# Altium schematic symbol library SamacSys.SchLib: 56 symbols
Pins are listed as number, name and electrical type; pins without a type are passive.

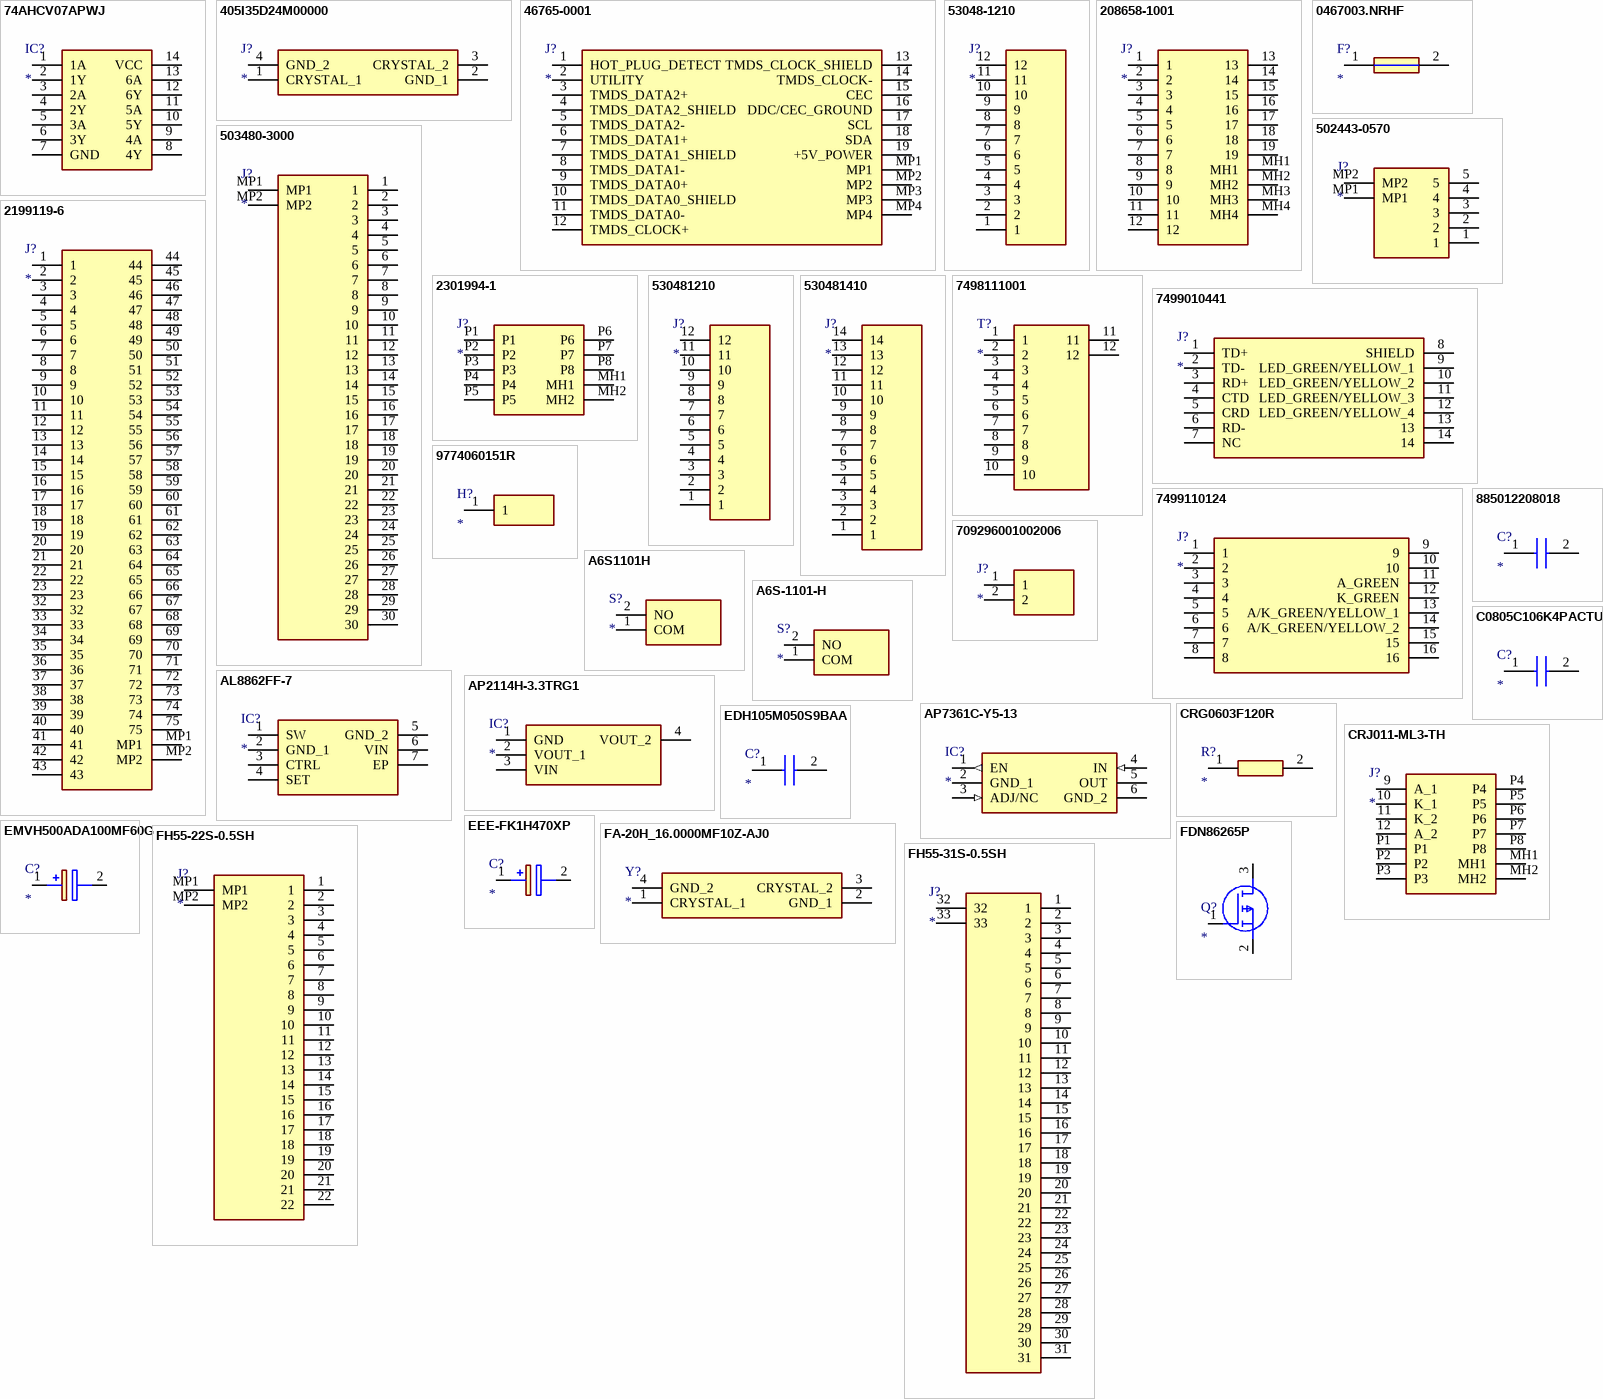
[diagram p0: symbols 74AHCV07APWJ to FH55-31S-0.5SH]

## 74AHCV07APWJ
designator IC?
Integrated Circuit; Manufacturer_Name: Nexperia; Manufacturer_Part_Number: 74AHCV07APWJ; Datasheet Link: https://assets.nexperia.com/documents/data-sheet/74AHCV07A.pdf; Height: 1.1mm; Mouser Part Number: 771-74AHCV07APWJ; Mouser Price/Stock: https://www.mouser.co.uk/ProductDetail/Nexperia/74AHCV07APWJ?qs=u4fy%2FsgLU9Pjqk84zTNYAw%3D%3D; Arrow Part Number: 74AHCV07APWJ; Arrow Price/Stock: https://www.arrow.com/en/products/74ahcv07apwj/nexperia
footprint SOP65P640X110-14N
pins: 1 1A, 2 1Y, 3 2A, 4 2Y, 5 3A, 6 3Y, 7 GND, 8 4Y, 9 4A, 10 5Y, 11 5A, 12 6Y, 13 6A, 14 VCC

## 405I35D24M00000
designator J?
Connector; Manufacturer_Name: CTS; Manufacturer_Part_Number: 405I35D24M00000; Datasheet Link: https://www.mouser.com/datasheet/2/96/008-0253-0-786072.pdf; Height: 1mm; Mouser Part Number: 774-405I35D24M00000; Mouser Price/Stock: https://www.mouser.co.uk/ProductDetail/CTS-Electronic-Components/405I35D24M00000?qs=PDIOggHaj2zuh0HEc8%252Bmtg%3D%3D; Arrow Part Number: 405I35D24M00000; Arrow Price/Stock: https://www.arrow.com/en/products/405i35d24m00000/cts
footprint 405I35D24M00000
pins: 1 CRYSTAL_1, 2 GND_1, 3 CRYSTAL_2, 4 GND_2

## 46765-0001
designator J?
Connector; Manufacturer_Name: Molex; Manufacturer_Part_Number: 46765-0001; Datasheet Link: https://www.molex.com/pdm_docs/sd/467650001_sd.pdf; Height: 3.05mm; Mouser Part Number: 538-46765-0001; Mouser Price/Stock: https://www.mouser.co.uk/ProductDetail/Molex/46765-0001?qs=ASaot9jrY6G3qvY5XgUFsQ%3D%3D
footprint 467650001
pins: 1 HOT_PLUG_DETECT, 2 UTILITY, 3 TMDS_DATA2+, 4 TMDS_DATA2_SHIELD, 5 TMDS_DATA2-, 6 TMDS_DATA1+, 7 TMDS_DATA1_SHIELD, 8 TMDS_DATA1-, 9 TMDS_DATA0+, 10 TMDS_DATA0_SHIELD, 11 TMDS_DATA0-, 12 TMDS_CLOCK+, 13 TMDS_CLOCK_SHIELD, 14 TMDS_CLOCK-, 15 CEC, 16 DDC/CEC_GROUND, 17 SCL, 18 SDA, 19 +5V_POWER, MP1, MP2, MP3, MP4

## 53048-1210
designator J?
Connector; Manufacturer_Name: Molex; Manufacturer_Part_Number: 53048-1210; Datasheet Link: https://www.molex.com/pdm_docs/sd/530481210_sd.pdf; Height: 3.7mm; Mouser Part Number: 538-53048-1210; Mouser Price/Stock: https://www.mouser.co.uk/ProductDetail/Molex/53048-1210?qs=jsoPY5EnoNtPZoAEkzh5RA%3D%3D
footprint 530481210
pins: 1, 2, 3, 4, 5, 6, 7, 8, 9, 10, 11, 12

## 208658-1001
designator J?
Connector; Manufacturer_Name: Molex; Manufacturer_Part_Number: 208658-1001; Datasheet Link: https://componentsearchengine.com/Datasheets/2/208658-1001.pdf; Height: 6.19mm; Mouser Part Number: 538-208658-1001; Mouser Price/Stock: https://www.mouser.co.uk/ProductDetail/Molex/208658-1001?qs=B6kkDfuK7%2FCPiHHdkGL5VQ%3D%3D
footprint 2086581001
pins: 1, 2, 3, 4, 5, 6, 7, 8, 9, 10, 11, 12, 13, 14, 15, 16, 17, 18, 19, MH1, MH2, MH3, MH4

## 0467003.NRHF
designator F?
Fuse; Manufacturer_Name: LITTELFUSE; Manufacturer_Part_Number: 0467003.NRHF; Datasheet Link: https://componentsearchengine.com/Datasheets/2/0467003.NRHF.pdf; Height: 0.432mm; Mouser Part Number: 576-0467003.NRHF; Mouser Price/Stock: https://www.mouser.co.uk/ProductDetail/Littelfuse/0467003NRHF?qs=PalBzRKzfnvFQs1rQNSAzg%3D%3D; Arrow Part Number: 0467003.NRHF; Arrow Price/Stock: https://www.arrow.com/en/products/0467003.nrhf/littelfuse?region=nac
footprint FUSC1608X43N
pins: 1, 2

## 502443-0570
designator J?
Connector; Manufacturer_Name: Molex; Manufacturer_Part_Number: 502443-0570; Datasheet Link: https://componentsearchengine.com/Datasheets/2/502443-0570.pdf; Height: 7.45mm; Mouser Part Number: 538-502443-0570; Mouser Price/Stock: https://www.mouser.co.uk/ProductDetail/Molex/502443-0570?qs=1uvhzzitxfg1OVwaaAd81w%3D%3D
footprint 5024430570
pins: 1, 2, 3, 4, 5, MP1, MP2

## 503480-3000
designator J?
Connector; Manufacturer_Name: Molex; Manufacturer_Part_Number: 503480-3000; Datasheet Link: https://www.molex.com/pdm_docs/sd/5034803000_sd.pdf; Height: 1.2mm; Mouser Part Number: 538-503480-3000; Mouser Price/Stock: https://www.mouser.co.uk/ProductDetail/Molex/503480-3000?qs=GedFDFLaBXHBdtIsuHVbtw%3D%3D
footprint 5034803000
pins: 1, 2, 3, 4, 5, 6, 7, 8, 9, 10, 11, 12, 13, 14, 15, 16, 17, 18, 19, 20, 21, 22, 23, 24, 25, 26, 27, 28, 29, 30, MP1, MP2

## 2199119-6
designator J?
Connector; Manufacturer_Name: TE Connectivity; Manufacturer_Part_Number: 2199119-6; Datasheet Link: https://www.te.com/commerce/DocumentDelivery/DDEController?Action=showdoc&DocId=Customer+Drawing%7F2199119%7FF%7Fpdf%7FEnglish%7FENG_CD_2199119_F.pdf%7F2199119-6; Height: 3.2mm; Mouser Part Number: 571-2199119-6; Mouser Price/Stock: https://www.mouser.co.uk/ProductDetail/TE-Connectivity/2199119-6?qs=I%252B29QTDM1GPbKrQPIjXoKA%3D%3D; Arrow Part Number: 2199119-6; Arrow Price/Stock: https://www.arrow.com/en/products/2199119-6/te-connectivity?region=nac
footprint 21991196
pins: 1, 2, 3, 4, 5, 6, 7, 8, 9, 10, 11, 12, 13, 14, 15, 16, 17, 18, 19, 20, 21, 22, 23, 32, 33, 34, 35, 36, 37, 38, 39, 40, 41, 42, 43, 44, 45, 46, 47, 48, 49, 50, 51, 52, 53, 54, 55, 56, 57, 58, 59, 60, 61, 62, 63, 64, 65, 66, 67, 68, 69, 70, 71, 72, 73, 74, 75, MP1, MP2

## 2301994-1
designator J?
Connector; Manufacturer_Name: TE Connectivity; Manufacturer_Part_Number: 2301994-1; Datasheet Link: https://www.te.com/commerce/DocumentDelivery/DDEController?Action=showdoc&DocId=Customer+Drawing%7F2301994-1%7FB2%7Fpdf%7FEnglish%7FENG_CD_2301994-1_B2.pdf%7F2301994-1; Height: 14.05mm; Mouser Part Number: 571-2301994-1; Mouser Price/Stock: https://www.mouser.co.uk/ProductDetail/TE-Connectivity/2301994-1?qs=u4fy%2FsgLU9P5wNXXOQsSRw%3D%3D; Arrow Part Number: 2301994-1; Arrow Price/Stock: https://www.arrow.com/en/products/2301994-1/te-connectivity?region=nac
footprint 23019941
pins: MH1, MH2, P1, P2, P3, P4, P5, P6, P7, P8

## 530481210
designator J?
Connector; Manufacturer_Name: Molex; Manufacturer_Part_Number: 530481210; Datasheet Link: https://www.molex.com/pdm_docs/sd/530480210_sd.pdf; Height: 3.5mm
footprint 530481210
pins: 1, 2, 3, 4, 5, 6, 7, 8, 9, 10, 11, 12

## 530481410
designator J?
Connector; Manufacturer_Name: Molex; Manufacturer_Part_Number: 530481410; Datasheet Link: https://www.molex.com/pdm_docs/sd/530480210_sd.pdf; Height: 3.5mm
footprint 530481410
pins: 1, 2, 3, 4, 5, 6, 7, 8, 9, 10, 11, 12, 13, 14

## 7498111001
designator T?
Transformer; Manufacturer_Name: Wurth Elektronik; Manufacturer_Part_Number: 7498111001; Datasheet Link: https://componentsearchengine.com/Datasheets/3/7498111001.pdf; Height: 13mm; Mouser Part Number: 710-7498111001; Mouser Price/Stock: https://www.mouser.co.uk/ProductDetail/Wurth-Elektronik/7498111001?qs=SaTeGCoDkn1rVrmrMsYk8g%3D%3D
footprint 7498111001
pins: 1, 2, 3, 4, 5, 6, 7, 8, 9, 10, 11, 12

## 7499010441
designator J?
Connector; Manufacturer_Name: Wurth Elektronik; Manufacturer_Part_Number: 7499010441; Datasheet Link: https://katalog.we-online.de/pbs/datasheet/7499010441.pdf; Height: 13.5mm; Mouser Part Number: 710-7499010441; Mouser Price/Stock: https://www.mouser.co.uk/ProductDetail/Wurth-Elektronik/7499010441?qs=AAveGqk956Go64FoBQPFSg%3D%3D
footprint 7499010441
pins: 1 TD+, 2 TD-, 3 RD+, 4 CTD, 5 CRD, 6 RD-, 7 NC, 8 SHIELD, 9 LED_GREEN/YELLOW_1, 10 LED_GREEN/YELLOW_2, 11 LED_GREEN/YELLOW_3, 12 LED_GREEN/YELLOW_4, 13, 14

## 7499110124
designator J?
Connector; Manufacturer_Name: Wurth Elektronik; Manufacturer_Part_Number: 7499110124; Datasheet Link: https://katalog.we-online.de/pbs/datasheet/7499110124.pdf; Height: 13.5mm; Mouser Part Number: 710-7499110124; Mouser Price/Stock: https://www.mouser.co.uk/ProductDetail/Wurth-Elektronik/7499110124?qs=SaTeGCoDkn1PvCMdPPvy%2FA%3D%3D
footprint 7499110124
pins: 1, 2, 3, 4, 5, 6, 7, 8, 9, 10, 11 A_GREEN, 12 K_GREEN, 13 A/K_GREEN/YELLOW_1, 14 A/K_GREEN/YELLOW_2, 15, 16

## 9774060151R
designator H?
Hardware; Manufacturer_Name: Wurth Elektronik; Manufacturer_Part_Number: 9774060151R; Datasheet Link: https://katalog.we-online.com/em/datasheet/9774060151R.pdf; Mouser Part Number: 710-9774060151R; Mouser Price/Stock: https://www.mouser.co.uk/ProductDetail/Wurth-Elektronik/9774060151R?qs=KRpiEsko4HliqbwqeZk1iQ%3D%3D
footprint 9774060151R
pins: 1

## 885012208018
designator C?
Capacitor; Manufacturer_Name: Wurth Elektronik; Manufacturer_Part_Number: 885012208018; Datasheet Link: https://katalog.we-online.com/pbs/datasheet/885012208018.pdf; Height: 1.9mm; Mouser Part Number: 710-885012208018; Mouser Price/Stock: https://www.mouser.co.uk/ProductDetail/Wurth-Elektronik/885012208018?qs=0KOYDY2FL29Z58ELVPY%252BCA%3D%3D
footprint CAPC3317X190N
pins: 1, 2

## 709296001002006
designator J?
Connector; Manufacturer_Name: AVX; Manufacturer_Part_Number: 709296001002006; Datasheet Link: http://datasheets.avx.com/Poke_Home_Single_70-9296.pdf; Height: 1.7mm; Mouser Part Number: 581-709296001002006; Mouser Price/Stock: https://www.mouser.co.uk/ProductDetail/AVX/709296001002006?qs=XLNwXgtzMM%2FMpQCpbqirvA%3D%3D; Arrow Part Number: 709296001002006; Arrow Price/Stock: https://www.arrow.com/en/products/709296001002006/avx
footprint 709296001002006
pins: 1, 2

## A6S1101H
designator S?
Switch; Manufacturer_Name: Omron Electronics; Manufacturer_Part_Number: A6S1101H; Datasheet Link: http://www.farnell.com/datasheets/2340746.pdf; Arrow Part Number: A6S1101H; Arrow Price/Stock: https://www.arrow.com/en/products/a6s-1101-h/omron
footprint A6S-1104-H
pins: 1 COM, 2 NO

## A6S-1101-H
designator S?
Switch; Manufacturer_Name: Omron Electronics; Manufacturer_Part_Number: A6S-1101-H; Datasheet Link: https://mouser.componentsearchengine.com/Datasheets/1/A6S-1101-H.pdf; Height: 3.8mm; Mouser Part Number: 653-A6S-1101-H; Mouser Price/Stock: https://www.mouser.co.uk/ProductDetail/Omron-Electronics/A6S-1101-H?qs=QTkYtwcxD6MyBm2N0BKuKw%3D%3D; Arrow Part Number: A6S-1101-H; Arrow Price/Stock: https://www.arrow.com/en/products/a6s-1101-h/omron?region=europe
footprint A6S1101H
pins: 1 COM, 2 NO

## AL8862FF-7
designator IC?
Integrated Circuit; Manufacturer_Name: Diodes Inc.; Manufacturer_Part_Number: AL8862FF-7; Datasheet Link: https://www.diodes.com/assets/Datasheets/AL8862.pdf; Height: 0.63mm; Mouser Part Number: 621-AL8862FF-7; Mouser Price/Stock: https://www.mouser.co.uk/ProductDetail/Diodes-Incorporated/AL8862FF-7?qs=pBJMDPsKWf2LdfC8xFvK8A%3D%3D
footprint AL8862FF7
pins: 1 SW, 2 GND_1, 3 CTRL, 4 SET, 5 GND_2, 6 VIN, 7 EP

## AP2114H-3.3TRG1
designator IC?
Integrated Circuit; Manufacturer_Name: Diodes Inc.; Manufacturer_Part_Number: AP2114H-3.3TRG1; Datasheet Link: http://uk.rs-online.com/web/p/products/8283528; Height: 1.8mm; Mouser Part Number: 621-AP2114H-3.3TRG1; Mouser Price/Stock: https://www.mouser.co.uk/ProductDetail/Diodes-Incorporated/AP2114H-33TRG1?qs=x6A8l6qLYDDSG%2FfwzcsOhw%3D%3D; Arrow Part Number: AP2114H-3.3TRG1; Arrow Price/Stock: https://www.arrow.com/en/products/ap2114h-3.3trg1/diodes-incorporated?region=nac
footprint SOT230P700X180-4N
pins: 1 GND, 2 VOUT_1, 3 VIN, 4 VOUT_2

## AP7361C-Y5-13
designator IC?
Integrated Circuit; Manufacturer_Name: Diodes Inc.; Manufacturer_Part_Number: AP7361C-Y5-13; Datasheet Link: https://www.diodes.com/assets/Datasheets/AP7361C.pdf; Height: 1.6mm; Mouser Part Number: 621-AP7361C-Y5-13; Mouser Price/Stock: https://www.mouser.co.uk/ProductDetail/Diodes-Incorporated/AP7361C-Y5-13?qs=X421pCAdHWfqKZFzQxfJNg%3D%3D; Arrow Part Number: AP7361C-Y5-13; Arrow Price/Stock: https://www.arrow.com/en/products/ap7361c-y5-13/diodes-incorporated?region=nac
footprint AP7361CY513
pins: 1 EN (out), 2 GND_1 (power), 3 ADJ/NC (in), 4 IN (in), 5 OUT (power), 6 GND_2

## C0805C106K4PACTU
designator C?
Capacitor; Manufacturer_Name: KEMET; Manufacturer_Part_Number: C0805C106K4PACTU; Datasheet Link: https://content.kemet.com/datasheets/KEM_C1006_X5R_SMD.pdf; Height: 1.1mm; Mouser Part Number: 80-C0805C106K4P; Mouser Price/Stock: https://www.mouser.co.uk/ProductDetail/KEMET/C0805C106K4PACTU?qs=LOQsJ2JwiRQzQlGR%2F0Z13g%3D%3D; Arrow Part Number: C0805C106K4PACTU; Arrow Price/Stock: https://www.arrow.com/en/products/c0805c106k4pactu/kemet-corporation
footprint C0805
pins: 1, 2

## CRG0603F120R
designator R?
Resistor; Manufacturer_Name: TE Connectivity; Manufacturer_Part_Number: CRG0603F120R; Description: CRG0603 SMT chip resistor,120R 1% 0.1W TE Connectivity CRG0603 Series Thick Film Surface Mount Resistor 0603 Case 120 +/-1% 0.1W +/-100ppm/C; Datasheet Link: http://docs-europe.electrocomponents.com/webdocs/13d1/0900766b813d116f.pdf; Height: 0.55mm; Mouser Part Number: 279-CRG0603F120R; Mouser Price/Stock: https://www.mouser.co.uk/ProductDetail/TE-Connectivity-Holsworthy/CRG0603F120R?qs=VHcS2MTj4gbLzmSJaKDB9g%3D%3D; Arrow Part Number: CRG0603F120R; Arrow Price/Stock: https://www.arrow.com/en/products/crg0603f120r/te-connectivity
footprint RESC1608X55N
pins: 1, 2

## CRJ011-ML3-TH
designator J?
Connector; Manufacturer_Name: CUI Inc.; Manufacturer_Part_Number: CRJ011-ML3-TH; Datasheet Link: https://jp.cuidevices.com/product/resource/pdf/crj011.pdf; Height: 13.85mm; Mouser Part Number: 490-CRJ011-ML3-TH; Mouser Price/Stock: https://www.mouser.co.uk/ProductDetail/CUI-Devices/CRJ011-ML3-TH?qs=iLbezkQI%252BsiHIm7ab6t71Q%3D%3D
footprint CRJ011ML3TH
pins: 9 A_1, 10 K_1, 11 K_2, 12 A_2, MH1, MH2, P1, P2, P3, P4, P5, P6, P7, P8

## EDH105M050S9BAA
designator C?
Capacitor; Manufacturer_Name: KEMET; Manufacturer_Part_Number: EDH105M050S9BAA; Datasheet Link: https://content.kemet.com/datasheets/KEM_A4049_EDH.pdf; Height: 5.65mm; Mouser Part Number: 80-EDH105M050S9BAA; Mouser Price/Stock: https://www.mouser.co.uk/ProductDetail/KEMET/EDH105M050S9BAA?qs=E9QF1UCAUX7RrmBLBgPXlg%3D%3D; Arrow Part Number: EDH105M050S9BAA; Arrow Price/Stock: https://www.arrow.com/en/products/edh105m050s9baa/kemet-corporation
footprint CAPAE430X565N
pins: 1 +, 2 -

## EEE-FK1H470XP
designator C?
Capacitor Polarised; Manufacturer_Name: Panasonic; Manufacturer_Part_Number: EEE-FK1H470XP; Description: PANASONIC - EEE-FK1H470XP - ALUMINUM ELECTORLYTIC CAPACITOR; Datasheet Link: http://industrial.panasonic.com/cdbs/www-data/pdf/RDE0000/ABA0000C1181.pdf; Height: 7.8mm; Mouser Part Number: 667-EEE-FK1H470XP; Mouser Price/Stock: https://www.mouser.co.uk/ProductDetail/Panasonic/EEE-FK1H470XP?qs=qE6bgDGEOCtuVppQsylaxg%3D%3D; Arrow Part Number: EEE-FK1H470XP; Arrow Price/Stock: https://www.arrow.com/en/products/eee-fk1h470xp/panasonic?region=europe
footprint EEE0JA331XP
pins: 1 +, 2 -

## EMVH500ADA100MF60G
designator C?
Capacitor Polarised; Manufacturer_Name: United Chemi-Con; Manufacturer_Part_Number: EMVH500ADA100MF60G; Datasheet Link: https://datasheet.datasheetarchive.com/originals/distributors/Datasheets_SAMA/00faa400e29ccc6bfe274dba95f85cbe.pdf; Height: 6mm; Mouser Part Number: 661-MVH50V100M; Mouser Price/Stock: https://www.mouser.co.uk/ProductDetail/United-Chemi-Con/EMVH500ADA100MF60G?qs=P7xQOtY7rRc8whqEtcuBMg%3D%3D; Arrow Part Number: EMVH500ADA100MF60G; Arrow Price/Stock: https://www.arrow.com/en/products/emvh500ada100mf60g/united-chemi-con
footprint CAPAE660X600N
pins: 1 +, 2 -

## FA-20H_16.0000MF10Z-AJ0
designator Y?
Crystal or Oscillator; Manufacturer_Name: Epson Timing; Manufacturer_Part_Number: FA-20H 16.0000MF10Z-AJ0; Datasheet Link: https://support.epson.biz/td/api/doc_check.php?dl=brief_FA-20H&lang=en; Height: 0.55mm; Mouser Part Number: 732-FA-20H16MF10ZAJ0; Mouser Price/Stock: https://www.mouser.co.uk/ProductDetail/Epson-Timing/FA-20H-160000MF10Z-AJ0?qs=f9yNj16SXrIaU%252BY5GFRuIg%3D%3D; Arrow Part Number: FA-20H 16.0000MF10Z-AJ0; Arrow Price/Stock: https://www.arrow.com/en/products/fa-20h16.0000mf10z-aj0/epson-electronics-america?region=nac
footprint FA20H160000MF12ZAC3
pins: 1 CRYSTAL_1, 2 GND_1, 3 CRYSTAL_2, 4 GND_2

## FDN86265P
designator Q?
MOSFET (P-Channel); Manufacturer_Name: onsemi; Manufacturer_Part_Number: FDN86265P; Datasheet Link: https://datasheet.datasheetarchive.com/originals/distributors/DKDS-30/583456.pdf; Height: 1.12mm; Mouser Part Number: 512-FDN86265P; Mouser Price/Stock: https://www.mouser.co.uk/ProductDetail/ON-Semiconductor-Fairchild/FDN86265P?qs=wsLAKTqgg6igijISDrHynQ%3D%3D; Arrow Part Number: FDN86265P; Arrow Price/Stock: https://www.arrow.com/en/products/fdn86265p/on-semiconductor?region=nac
footprint SOT95P251X112-3N
pins: 1 G, 2 S, 3 D

## FH55-22S-0.5SH
designator J?
Connector; Manufacturer_Name: Hirose; Manufacturer_Part_Number: FH55-22S-0.5SH; Datasheet Link: https://www.hirose.com/product/document?clcode=CL0580-3707-7-00&productname=FH55-22S-0.5SH&series=FH55&documenttype=2DDrawing&lang=en&documentid=0000954481; Height: 1.6mm; Mouser Part Number: 798-FH55-22S-0.5SH; Mouser Price/Stock: https://www.mouser.co.uk/ProductDetail/Hirose-Connector/FH55-22S-0.5SH?qs=oomPkbqnLXfkoKazRmaHyQ%3D%3D
footprint FH5522S05SH
pins: 1, 2, 3, 4, 5, 6, 7, 8, 9, 10, 11, 12, 13, 14, 15, 16, 17, 18, 19, 20, 21, 22, MP1, MP2

## FH55-31S-0.5SH
designator J?
Connector; Manufacturer_Name: Hirose; Manufacturer_Part_Number: FH55-31S-0.5SH; Datasheet Link: https://www.hirose.com/product/en/products/FH55/FH55-31S-0.5SH/; Height: 2mm; Mouser Part Number: 798-FH55-31S-0.5SH; Mouser Price/Stock: https://www.mouser.co.uk/ProductDetail/Hirose-Connector/FH55-31S-0.5SH?qs=oomPkbqnLXdEjrIJHYo28Q%3D%3D
footprint FH5531S05SH
pins: 1, 2, 3, 4, 5, 6, 7, 8, 9, 10, 11, 12, 13, 14, 15, 16, 17, 18, 19, 20, 21, 22, 23, 24, 25, 26, 27, 28, 29, 30, 31, 32, 33

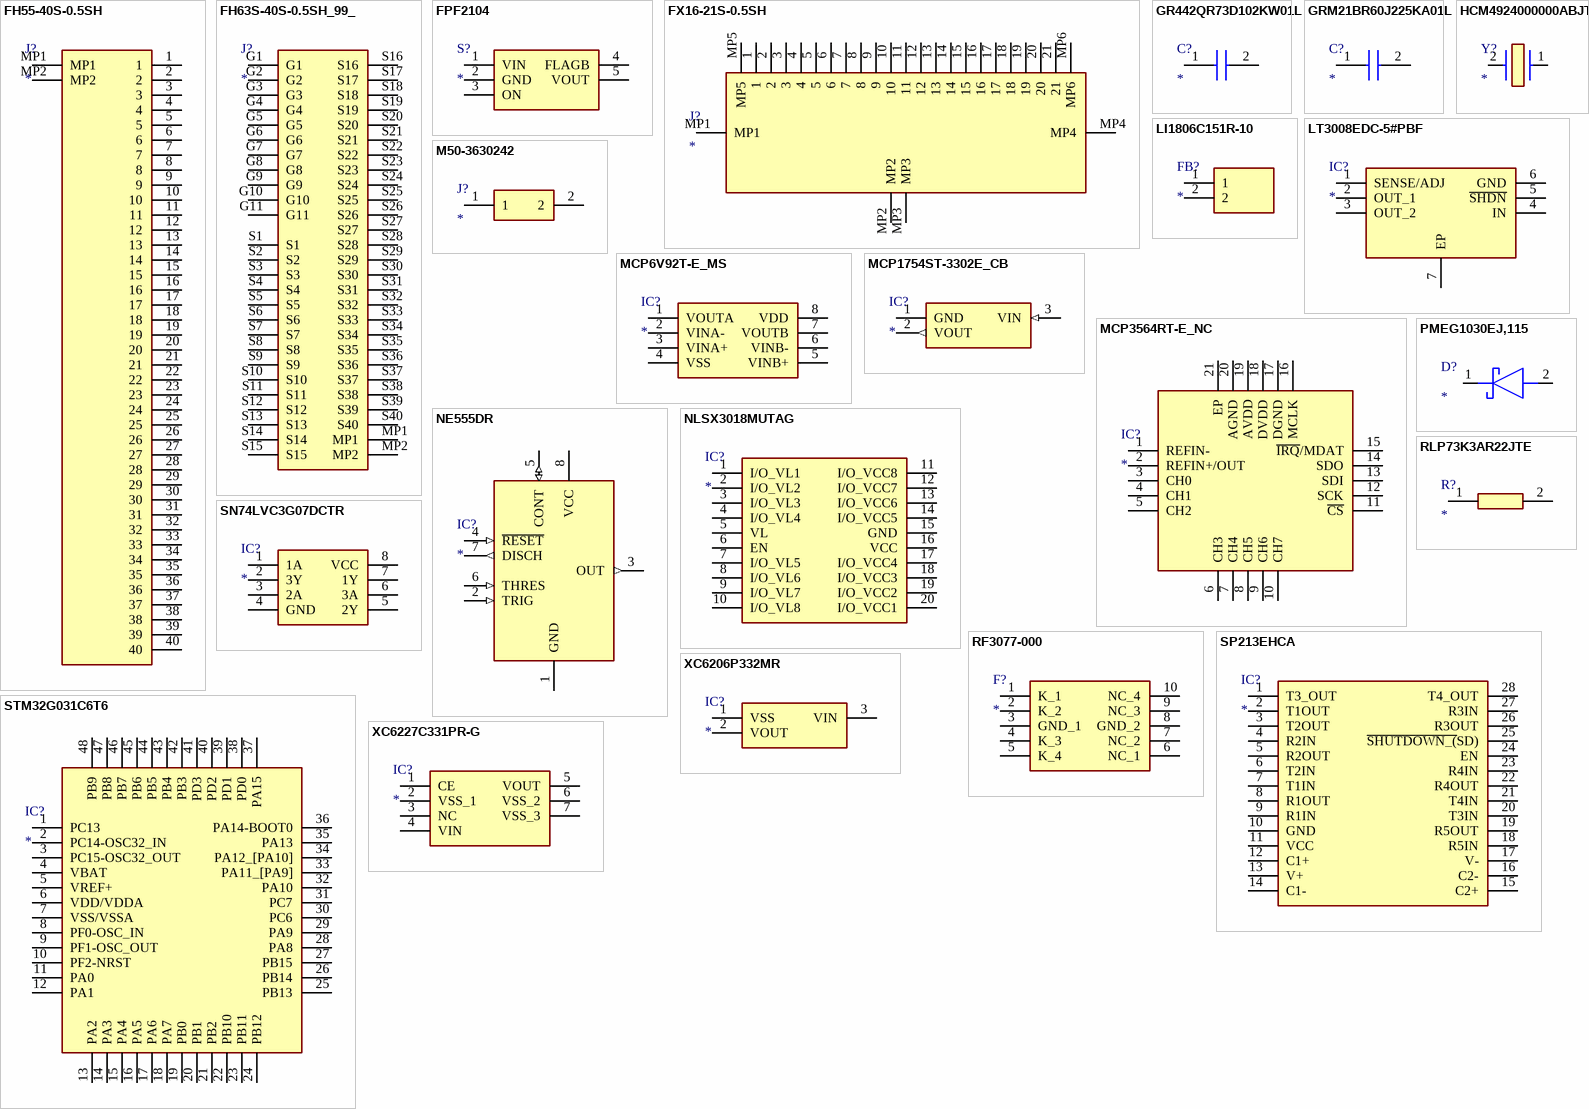
[diagram p1: symbols FH55-40S-0.5SH to XC6227C331PR-G]

## FH55-40S-0.5SH
designator J?
Connector; Manufacturer_Name: Hirose; Manufacturer_Part_Number: FH55-40S-0.5SH; Datasheet Link: https://componentsearchengine.com/Datasheets/1/FH55-40S-0.5SH.pdf; Height: 2.7mm; Mouser Part Number: 798-FH55-40S-0.5SH; Mouser Price/Stock: https://www.mouser.co.uk/ProductDetail/Hirose-Connector/FH55-40S-0.5SH?qs=ktzyoYSUItcg3zEHsgvG1w%3D%3D
footprint FH5540S05SH
pins: 1, 2, 3, 4, 5, 6, 7, 8, 9, 10, 11, 12, 13, 14, 15, 16, 17, 18, 19, 20, 21, 22, 23, 24, 25, 26, 27, 28, 29, 30, 31, 32, 33, 34, 35, 36, 37, 38, 39, 40, MP1, MP2

## FH63S-40S-0.5SH_99_
designator J?
Connector; Manufacturer_Name: Hirose; Manufacturer_Part_Number: FH63S-40S-0.5SH(99); Datasheet Link: https://www.hirose.com/en/product/document?clcode=CL0580-4416-0-99&productname=FH63S-40S-0.5SH(99)&series=FH63S&documenttype=Catalog&lang=en&documentid=ed_FH63S_CAT; Height: 2.802mm; Mouser Part Number: 798-FH63S40S0.5SH99; Mouser Price/Stock: https://www.mouser.co.uk/ProductDetail/Hirose-Connector/FH63S-40S-0.5SH99?qs=TuK3vfAjtkUsWQet%252Bj0BZA%3D%3D
footprint FH63S40S05SH99
pins: G1, G2, G3, G4, G5, G6, G7, G8, G9, G10, G11, MP1, MP2, S1, S2, S3, S4, S5, S6, S7, S8, S9, S10, S11, S12, S13, S14, S15, S16, S17, S18, S19, S20, S21, S22, S23, S24, S25, S26, S27, S28, S29, S30, S31, S32, S33, S34, S35, S36, S37, S38, S39, S40

## FPF2104
designator S?
Switch; Manufacturer_Name: onsemi; Manufacturer_Part_Number: FPF2104; Datasheet Link: https://www.onsemi.com/pub/Collateral/FPF2104-D.pdf; Height: 1.45mm; Mouser Part Number: 512-FPF2104; Mouser Price/Stock: https://www.mouser.co.uk/ProductDetail/ON-Semiconductor-Fairchild/FPF2104?qs=avSR6EZbCC0m9dvAR3XtGw%3D%3D; Arrow Part Number: FPF2104; Arrow Price/Stock: https://www.arrow.com/en/products/fpf2104/on-semiconductor?region=nac
footprint SOT95P280X145-5N
pins: 1 VIN, 2 GND, 3 ON, 4 FLAGB, 5 VOUT

## FX16-21S-0.5SH
designator J?
Connector; Manufacturer_Name: Hirose; Manufacturer_Part_Number: FX16-21S-0.5SH; Datasheet Link: https://www.hirose.com/en/product/document?clcode=CL0575-3411-5-00&productname=FX16-21S-0.5SH&series=FX16&documenttype=2DDrawing&lang=en&documentid=0000919096; Height: 4.7mm; Mouser Part Number: 798-FX1621S05SH; Mouser Price/Stock: https://www.mouser.co.uk/ProductDetail/Hirose-Connector/FX16-21S-05SH?qs=vnk2wBG9e16haNsE2RlrvQ%3D%3D
footprint FX1621S05SH
pins: 1, 2, 3, 4, 5, 6, 7, 8, 9, 10, 11, 12, 13, 14, 15, 16, 17, 18, 19, 20, 21, MP1, MP2, MP3, MP4, MP5, MP6

## GR442QR73D102KW01L
designator C?
Capacitor; Manufacturer_Name: Murata Electronics; Manufacturer_Part_Number: GR442QR73D102KW01L; Datasheet Link: https://componentsearchengine.com/Datasheets/2/GR442QR73D102KW01L.pdf; Height: 1.5mm; Mouser Part Number: 81-GR442QR73D102KW01; Mouser Price/Stock: https://www.mouser.co.uk/ProductDetail/Murata-Electronics/GR442QR73D102KW01L?qs=1XGAtBqYNz74JcxvF1DQuw%3D%3D; Arrow Part Number: GR442QR73D102KW01L; Arrow Price/Stock: https://www.arrow.com/en/products/gr442qr73d102kw01l/murata-manufacturing?region=nac
footprint CAPC4520X150N
pins: 1, 2

## GRM21BR60J225KA01L
designator C?
Capacitor; Manufacturer_Name: Murata Electronics; Manufacturer_Part_Number: GRM21BR60J225KA01L; Datasheet Link: https://www.murata.com/en-global/products/productdetail?partno=GRM21BR60J225KA01%23; Height: 1.35mm; Mouser Part Number: 81-GRM21R60J225KA01L; Mouser Price/Stock: https://www.mouser.co.uk/ProductDetail/Murata-Electronics/GRM21BR60J225KA01L?qs=DJY02EClX9mNbSy8m7mkKA%3D%3D; Arrow Part Number: GRM21BR60J225KA01L; Arrow Price/Stock: https://www.arrow.com/en/products/grm21br60j225ka01l/murata-manufacturing
footprint CAPC2012X135N
pins: 1, 2

## HCM4924000000ABJT
designator Y?
Crystal or Oscillator; Manufacturer_Name: Citizen Finetech Miyota; Manufacturer_Part_Number: HCM4924000000ABJT; Datasheet Link: http://cfd.citizen.co.jp/english/prod-tech/product/pdf/datasheet_AT/HCM49_E.pdf; Height: 4.3mm; Mouser Part Number: 695-HCM4924.0ABJT; Mouser Price/Stock: https://www.mouser.co.uk/ProductDetail/Citizen-FineDevice/HCM4924000000ABJT?qs=byeeYqUIh0Mz0GkevvEzSA%3D%3D
footprint HCM4924000000ABJT
pins: 1 CRISTAL_1, 2 CRYSTAL_2

## LI1806C151R-10
designator FB?
Ferrite Bead; Manufacturer_Name: Laird-Signal Integrity Products; Manufacturer_Part_Number: LI1806C151R-10; Datasheet Link: https://assets.lairdtech.com/home/brandworld/files/LI1806C151R-10.pdf; Height: 1.85mm
footprint BEADC4516X185N
pins: 1, 2

## LT3008EDC-5#PBF
designator IC?
Integrated Circuit; Manufacturer_Name: Analog Devices; Manufacturer_Part_Number: LT3008EDC-5#PBF; Datasheet Link: https://componentsearchengine.com/Datasheets/2/LT3008EDC-5#PBF.pdf; Height: 0.8mm; Arrow Part Number: LT3008EDC-5#PBF; Arrow Price/Stock: https://www.arrow.com/en/products/lt3008edc-5pbf/analog-devices
footprint SON50P200X200X80-7N-D
pins: 1 SENSE/ADJ, 2 OUT_1, 3 OUT_2, 4 IN, 5 ~{SHDN}, 6 GND, 7 EP

## M50-3630242
designator J?
Connector; Manufacturer_Name: Harwin; Manufacturer_Part_Number: M50-3630242; Datasheet Link: https://cdn.harwin.com/pdfs/M50-363.pdf; Height: 4.95mm; Mouser Part Number: 855-M50-3630242; Mouser Price/Stock: https://www.mouser.co.uk/ProductDetail/Harwin/M50-3630242?qs=%252BdQmOuGyFcGm5KVXDM4yoQ%3D%3D
footprint M503630242
pins: 1, 2

## MCP6V92T-E_MS
designator IC?
Integrated Circuit; Manufacturer_Name: Microchip; Manufacturer_Part_Number: MCP6V92T-E/MS; Datasheet Link: http://www.microchip.com/mymicrochip/filehandler.aspx?ddocname=en576041; Height: 1.1mm; Mouser Part Number: 579-MCP6V92T-E/MS; Mouser Price/Stock: https://www.mouser.co.uk/ProductDetail/Microchip-Technology/MCP6V92T-E-MS?qs=qdgZG5p0FZ4HI84z7ShhzQ%3D%3D
footprint SOP65P490X110-8N
pins: 1 VOUTA, 2 VINA-, 3 VINA+, 4 VSS, 5 VINB+, 6 VINB-, 7 VOUTB, 8 VDD

## MCP1754ST-3302E_CB
designator IC?
Integrated Circuit; Manufacturer_Name: Microchip; Manufacturer_Part_Number: MCP1754ST-3302E/CB; Datasheet Link: https://datasheet.datasheetarchive.com/originals/distributors/Datasheets-DGA25/1769666.pdf; Height: 1.45mm; Mouser Part Number: 579-MCP1754T-3302ECB; Mouser Price/Stock: https://www.mouser.co.uk/ProductDetail/Microchip-Technology-Atmel/MCP1754ST-3302E-CB?qs=geWWqIMx8YonlPvAIjHa%252Bg%3D%3D; Arrow Part Number: MCP1754ST-3302E/CB; Arrow Price/Stock: https://www.arrow.com/en/products/mcp1754st-3302ecb/microchip-technology?region=nac
footprint SOT95P255X145-3N
pins: 1 GND (power), 2 VOUT (out), 3 VIN (in)

## MCP3564RT-E_NC
designator IC?
Integrated Circuit; Manufacturer_Name: Microchip; Manufacturer_Part_Number: MCP3564RT-E/NC; Datasheet Link: https://componentsearchengine.com/Datasheets/2/MCP3564RT-E_NC.pdf; Height: 0.6mm; Mouser Part Number: 579-MCP3564RT-E/NC; Mouser Price/Stock: https://www.mouser.co.uk/ProductDetail/Microchip-Technology-Atmel/MCP3564RT-E-NC?qs=W%2FMpXkg%252BdQ5gy%252BbL1PS8rQ%3D%3D
footprint QFN40P300X300X60-21N-D
pins: 1 REFIN-, 2 REFIN+/OUT, 3 CH0, 4 CH1, 5 CH2, 6 CH3, 7 CH4, 8 CH5, 9 CH6, 10 CH7, 11 ~{CS}, 12 SCK, 13 SDI, 14 SDO, 15 ~{IRQ}/MDAT, 16 MCLK, 17 DGND, 18 DVDD, 19 AVDD, 20 AGND, 21 EP

## NE555DR
designator IC?
Integrated Circuit; Manufacturer_Name: Texas Instruments; Manufacturer_Part_Number: NE555DR; Datasheet Link: http://www.ti.com/lit/ds/symlink/ne555.pdf; Height: 1.75mm; Mouser Part Number: 595-NE555DR; Mouser Price/Stock: https://www.mouser.com/Search/Refine.aspx?Keyword=595-NE555DR; RS Part Number: 1218414; RS Price/Stock: http://uk.rs-online.com/web/p/products/1218414
footprint SOIC127P600X175-8N
pins: 1 GND (power), 2 TRIG (in), 3 OUT (out), 4 ~{RESET} (in), 5 CONT (io), 6 THRES (in), 7 DISCH (out), 8 VCC (power)

## NLSX3018MUTAG
designator IC?
Integrated Circuit; Manufacturer_Name: onsemi; Manufacturer_Part_Number: NLSX3018MUTAG; Datasheet Link: https://www.onsemi.com/pdf/datasheet/nlsx3018-d.pdf; Height: 0.55mm; Mouser Part Number: 863-NLSX3018MUTAG; Mouser Price/Stock: https://www.mouser.co.uk/ProductDetail/onsemi/NLSX3018MUTAG?qs=f%2FrHnGPwnA7cVlPtQziCvQ%3D%3D
footprint NLSX3018MUTAG
pins: 1 I/O_VL1, 2 I/O_VL2, 3 I/O_VL3, 4 I/O_VL4, 5 VL, 6 EN, 7 I/O_VL5, 8 I/O_VL6, 9 I/O_VL7, 10 I/O_VL8, 11 I/O_VCC8, 12 I/O_VCC7, 13 I/O_VCC6, 14 I/O_VCC5, 15 GND, 16 VCC, 17 I/O_VCC4, 18 I/O_VCC3, 19 I/O_VCC2, 20 I/O_VCC1

## PMEG1030EJ,115
designator D?
Schottky Diode; Manufacturer_Name: Nexperia; Manufacturer_Part_Number: PMEG1030EJ,115; Datasheet Link: https://assets.nexperia.com/documents/data-sheet/PMEG1030EH_EJ.pdf; Height: 0.8mm; Mouser Part Number: 771-PMEG1030EJ-T/R; Mouser Price/Stock: https://www.mouser.co.uk/ProductDetail/Nexperia/PMEG1030EJ115?qs=LOCUfHb8d9vmk7P%2FuYbs5A%3D%3D; Arrow Part Number: PMEG1030EJ,115; Arrow Price/Stock: https://www.arrow.com/en/products/pmeg1030ej115/nexperia?region=asia
footprint SODFL2512X80N
pins: 1 K, 2 A

## RF3077-000
designator F?
Fuse; Manufacturer_Name: LITTELFUSE; Manufacturer_Part_Number: RF3077-000; Datasheet Link: https://m.littelfuse.com/~/media/electronics/datasheets/tvs_diode_arrays/littelfuse_tvs_diode_array_sesd_ultra_low_capacitance_diode_arrays_datasheet.pdf.pdf; Height: 0.43mm; Mouser Part Number: N/A; Mouser Price/Stock: https://www.mouser.com/Search/Refine.aspx?Keyword=N%2FA; Arrow Part Number: RF3077-000; Arrow Price/Stock: https://www.arrow.com/en/products/rf3077-000/littelfuse
footprint RF3077000
pins: 1 K_1, 2 K_2, 3 GND_1, 4 K_3, 5 K_4, 6 NC_1, 7 NC_2, 8 GND_2, 9 NC_3, 10 NC_4

## RLP73K3AR22JTE
designator R?
Resistor; Manufacturer_Name: TE Connectivity; Manufacturer_Part_Number: RLP73K3AR22JTE; Description: TE Connectivity RLP73 Series Thick Film Current Sensing Surface Mount Resistor 2512 Case 220m +/-5% 2W +/-200ppm/C; Datasheet Link: https://www.te.com/commerce/DocumentDelivery/DDEController?Action=showdoc&DocId=Customer+Drawing%7F2176058%7FBA%7Fpdf%7FEnglish%7FENG_CD_2176058_BA.pdf%7F3-2176058-3; Height: 0.84mm; Arrow Part Number: RLP73K3AR22JTE; Arrow Price/Stock: https://www.arrow.com/en/products/rlp73k3ar22jte/te-connectivity
footprint RESC6432X84N
pins: 1, 2

## SN74LVC3G07DCTR
designator IC?
Integrated Circuit; Manufacturer_Name: Texas Instruments; Manufacturer_Part_Number: SN74LVC3G07DCTR; Datasheet Link: http://www.ti.com/lit/gpn/sn74lvc3g07; Height: 1.3mm; Mouser Part Number: 595-SN74LVC3G07DCTR; Mouser Price/Stock: https://www.mouser.co.uk/ProductDetail/Texas-Instruments/SN74LVC3G07DCTR?qs=EIjG%252BN7kn%252BkjPXAkl4%252BOIw%3D%3D; Arrow Part Number: SN74LVC3G07DCTR; Arrow Price/Stock: https://www.arrow.com/en/products/sn74lvc3g07dctr/texas-instruments?region=nac
footprint SOP65P400X130-8N
pins: 1 1A, 2 3Y, 3 2A, 4 GND, 5 2Y, 6 3A, 7 1Y, 8 VCC

## SP213EHCA
designator IC?
Integrated Circuit; Manufacturer_Name: Oasistek; Manufacturer_Part_Number: SP213EHCA; Datasheet Link: http://www.mouser.com/ds/2/146/exar_sp213eh-188916.pdf; Height: 1.99mm
footprint SOP65P778X199-28N
pins: 1 T3_OUT, 2 T1OUT, 3 T2OUT, 4 R2IN, 5 R2OUT, 6 T2IN, 7 T1IN, 8 R1OUT, 9 R1IN, 10 GND, 11 VCC, 12 C1+, 13 V+, 14 C1-, 15 C2+, 16 C2-, 17 V-, 18 R5IN, 19 R5OUT, 20 T3IN, 21 T4IN, 22 R4OUT, 23 R4IN, 24 EN, 25 ~{SHUTDOWN_(}SD), 26 R3OUT, 27 R3IN, 28 T4_OUT

## STM32G031C6T6
designator IC?
Integrated Circuit; Manufacturer_Name: STMicroelectronics; Manufacturer_Part_Number: STM32G031C6T6; Description: STMICROELECTRONICS - STM32G031C6T6 - ARM MCU; Datasheet Link: https://www.st.com/resource/en/datasheet/stm32g031c6.pdf; Height: 1.6mm; Mouser Part Number: 511-STM32G031C6T6; Mouser Price/Stock: https://www.mouser.co.uk/ProductDetail/STMicroelectronics/STM32G031C6T6?qs=uwxL4vQweFMtqlIt%2FRk%2Fog%3D%3D; Arrow Part Number: STM32G031C6T6; Arrow Price/Stock: https://www.arrow.com/en/products/stm32g031c6t6/stmicroelectronics?region=nac
footprint QFP50P900X900X160-48N
pins: 1 PC13, 2 PC14-OSC32_IN, 3 PC15-OSC32_OUT, 4 VBAT, 5 VREF+, 6 VDD/VDDA, 7 VSS/VSSA, 8 PF0-OSC_IN, 9 PF1-OSC_OUT, 10 PF2-NRST, 11 PA0, 12 PA1, 13 PA2, 14 PA3, 15 PA4, 16 PA5, 17 PA6, 18 PA7, 19 PB0, 20 PB1, 21 PB2, 22 PB10, 23 PB11, 24 PB12, 25 PB13, 26 PB14, 27 PB15, 28 PA8, 29 PA9, 30 PC6, 31 PC7, 32 PA10, 33 PA11_[PA9], 34 PA12_[PA10], 35 PA13, 36 PA14-BOOT0, 37 PA15, 38 PD0, 39 PD1, 40 PD2, 41 PD3, 42 PB3, 43 PB4, 44 PB5, 45 PB6, 46 PB7, 47 PB8, 48 PB9

## XC6206P332MR
designator IC?
Integrated Circuit; Manufacturer_Name: UMW(Youtai Semiconductor Co.; Manufacturer_Part_Number: XC6206P332MR; Datasheet Link: https://datasheet.lcsc.com/szlcsc/1812131433_Youtai-Semiconductor-Co-Ltd-XC6206P332MR_C347376.pdf; Height: 1.15mm
footprint SOT95P240X115-3N
pins: 1 VSS, 2 VOUT, 3 VIN

## XC6227C331PR-G
designator IC?
Integrated Circuit; Manufacturer_Name: Torex; Manufacturer_Part_Number: XC6227C331PR-G; Datasheet Link: https://www.torexsemi.com/file/xc6227/XC6227.pdf; Height: 1.6mm; Mouser Part Number: 865-XC6227C331PR-G; Mouser Price/Stock: https://www.mouser.co.uk/ProductDetail/Torex-Semiconductor/XC6227C331PR-G?qs=AsjdqWjXhJ9DrPcUjKBVyw%3D%3D
footprint XC6227C501PRG
pins: 1 CE, 2 VSS_1, 3 NC, 4 VIN, 5 VOUT, 6 VSS_2, 7 VSS_3